# Altium schematic symbol library 503182-1852.SchLib: 1 symbol
Pins are listed as number, name and electrical type; pins without a type are passive.

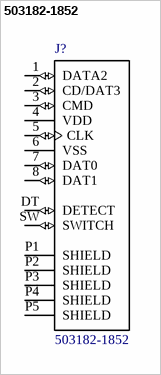
[diagram p0: symbol 503182-1852]

## 503182-1852
designator J?
/ 10 _8 + 2_ Position Card Connector microSDâ„¢ Surface Mount, Right Angle Gold /; MF: Molex; MP: 5031821852; Digi-Key_Purchase_URL: https://www.digikey.com/product-detail/en/molex/5031821852/WM12834CT-ND/5823232?utm_source=snapeda&utm_medium=aggregator&utm_campaign=symbol; Package: None; SnapEDA_Link: https://www.snapeda.com/parts/5031821852/Molex/view-part/46835/?ref=snap; Digi-Key_Part_Number: WM12834CT-ND; Value: *
footprint *MOLEX_503182-1852_503182-1852(Primary)
pins: 1 DATA2 (io), 2 CD/DAT3 (io), 3 CMD (io), 4 VDD (power), 5 CLK (io), 6 VSS (power), 7 DAT0 (io), 8 DAT1 (io), DT DETECT (io), P1 SHIELD, P2 SHIELD, P3 SHIELD, P4 SHIELD, P5 SHIELD, SW SWITCH (io)